# Altium schematic symbol library MyLibrary_SCH.SchLib: 9 symbols
Pins are listed as number, name and electrical type; pins without a type are passive.

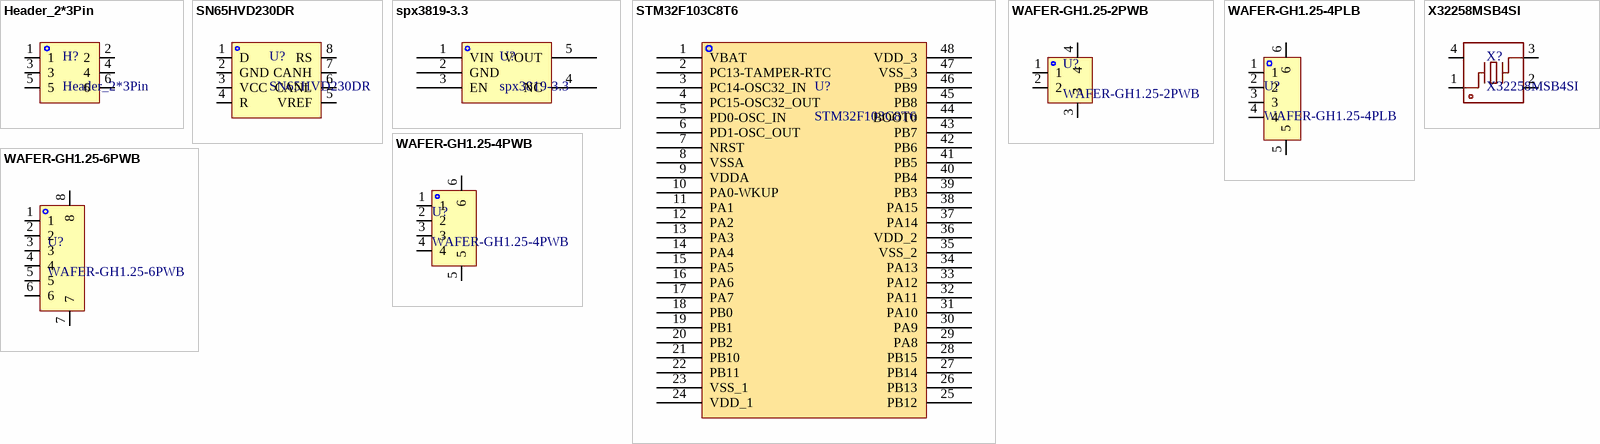
[diagram p0: symbols Header_2*3Pin to X32258MSB4SI]

## Header_2*3Pin
designator H?
pins: 1, 2, 3, 4, 5, 6

## SN65HVD230DR
designator U?
pins: 1 D, 2 GND, 3 VCC, 4 R, 5 VREF, 6 CANL, 7 CANH, 8 RS

## spx3819-3.3
designator U?
pins: 1 VIN, 2 GND, 3 EN, 4 NC, 5 VOUT

## STM32F103C8T6
designator U?
pins: 1 VBAT, 2 PC13-TAMPER-RTC, 3 PC14-OSC32_IN, 4 PC15-OSC32_OUT, 5 PD0-OSC_IN, 6 PD1-OSC_OUT, 7 NRST, 8 VSSA, 9 VDDA, 10 PA0-WKUP, 11 PA1, 12 PA2, 13 PA3, 14 PA4, 15 PA5, 16 PA6, 17 PA7, 18 PB0, 19 PB1, 20 PB2, 21 PB10, 22 PB11, 23 VSS_1, 24 VDD_1, 25 PB12, 26 PB13, 27 PB14, 28 PB15, 29 PA8, 30 PA9, 31 PA10, 32 PA11, 33 PA12, 34 PA13, 35 VSS_2, 36 VDD_2, 37 PA14, 38 PA15, 39 PB3, 40 PB4, 41 PB5, 42 PB6, 43 PB7, 44 BOOT0, 45 PB8, 46 PB9, 47 VSS_3, 48 VDD_3

## WAFER-GH1.25-2PWB
designator U?
pins: 1, 2, 3, 4

## WAFER-GH1.25-4PLB
designator U?
pins: 1, 2, 3, 4, 5, 6

## WAFER-GH1.25-4PWB
designator U?
pins: 1, 2, 3, 4, 5, 6

## WAFER-GH1.25-6PWB
designator U?
pins: 1, 2, 3, 4, 5, 6, 7, 8

## X32258MSB4SI
designator X?
pins: 1  , 2  , 3  , 4  